# Altium footprint library SWITCH_TACT_PUSHB.PcbLib: 55 footprints (part 1 of 4)
Each footprint in its own frame and in the unit in brackets; x right, y up, seen from the top. Pads: shape width x height; smd on the part's side, far side on the other; paste and mask are expansions set on the pad; w line width, h text height; cw(c..) or ccw(c..) is an arc to the next point about the centre after c.
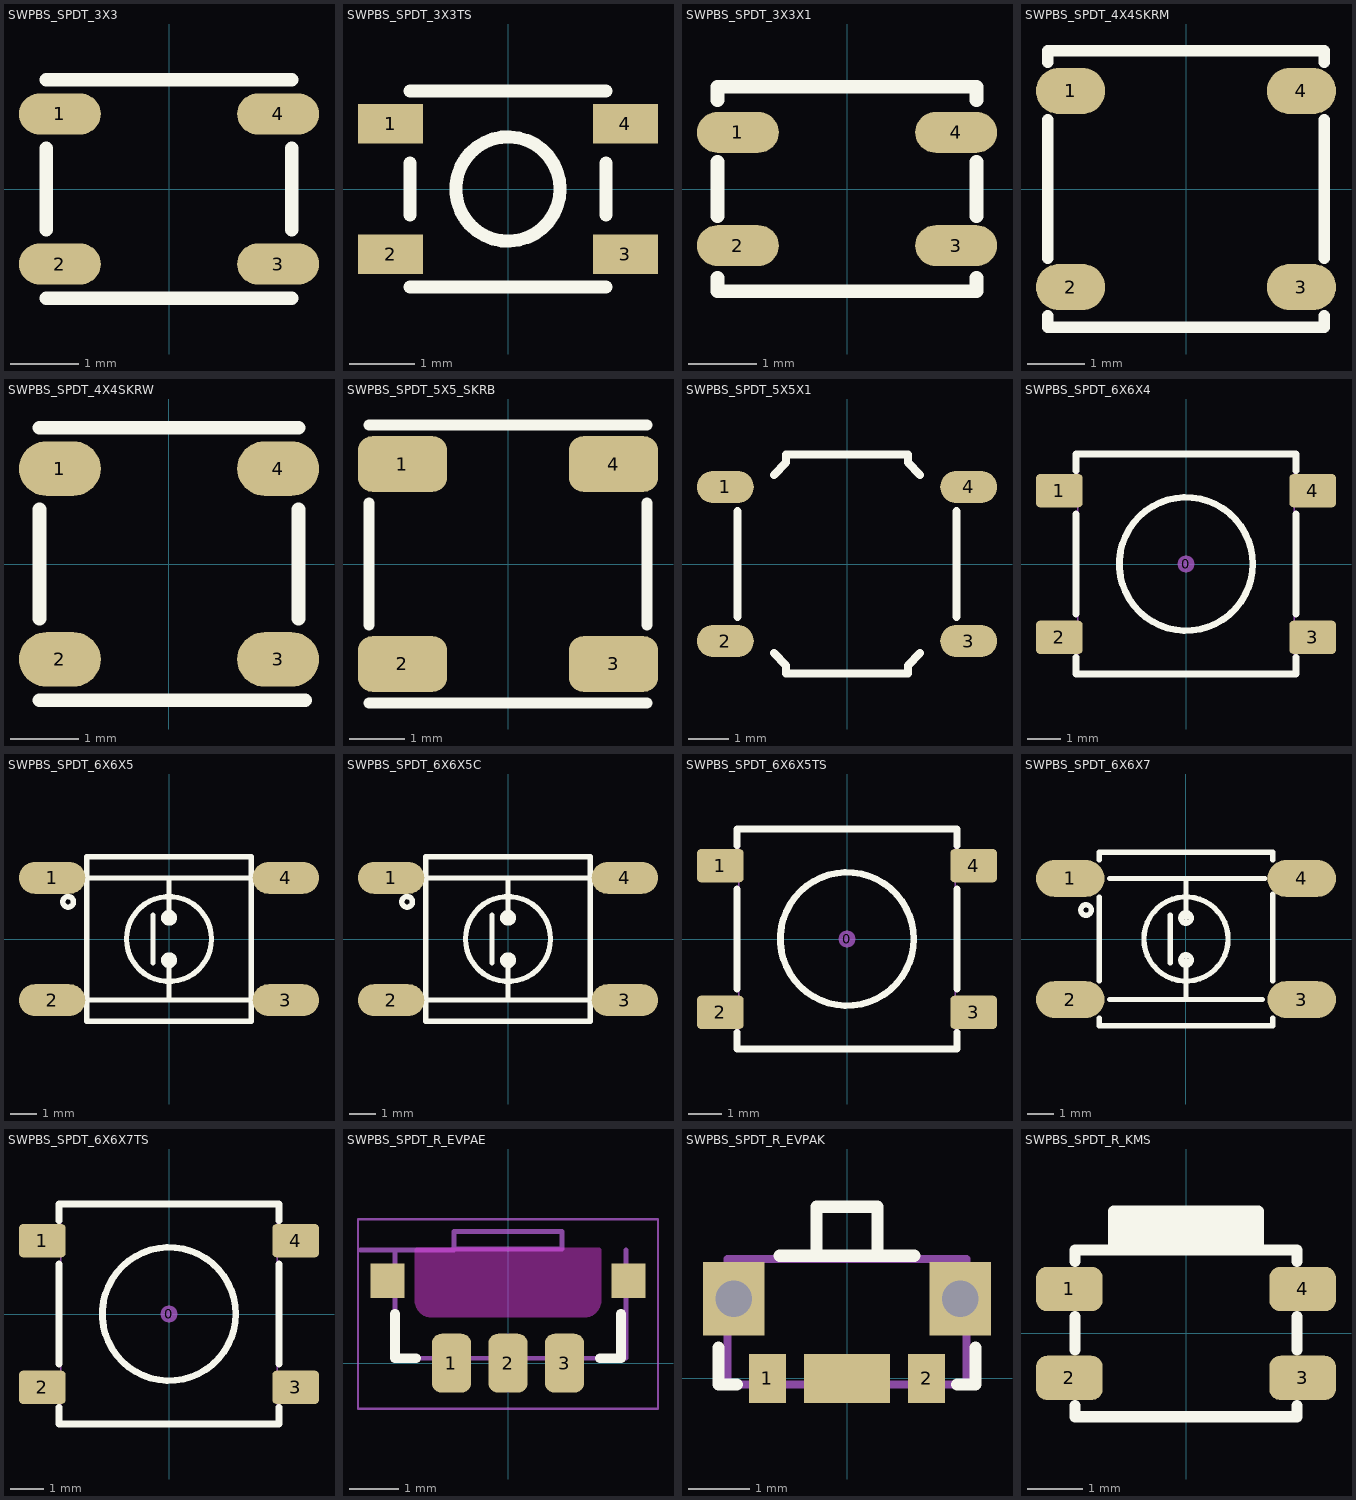
[diagram p0: the footprints below, top view; thin cyan lines are the x and y axes]

## SWPBS_SPDT_3X3 [mm] "SWITCH, PUSHBUTTON, SMD, SPDT, 3.3x2.9 mm, SKSH Series; Height 0.38mm ; 200,000 cycles ; 1.6N Force, SKSHAAE010"
height 0.379
pads (4):
  oval 1.2x0.6 smd mask+0.1: 1(-1.6,1.1) 2(-1.6,-1.1) 3(1.6,-1.1) 4(1.6,1.1)
Top Overlay:
  lines w0.2: -1.8,-1.6 1.8,-1.6 ; -1.8,-0.6 -1.8,0.6 ; -1.8,1.6 1.8,1.6 ; 1.8,-0.6 1.8,0.6
3D body "SKSHAA.STEP": height 0.4, standoff 0.03, extent -1.717,-1.48 1.716,1.48

## SWPBS_SPDT_3X3TS [mm] "SWITCH, PUSHBUTTON, SMD, SPDT, 3.1x3.1x1.5mm, TS-1233"
height 1.5
pads (4):
  rect 1x0.6 smd: 1(-1.8,1) 2(-1.8,-1) 3(1.8,-1) 4(1.8,1)
Top Overlay:
  circle w0.2: c0,0 r0.8
  lines w0.2: -1.5,-1.5 1.5,-1.5 ; -1.5,-0.4 -1.5,0.4 ; -1.5,1.5 1.5,1.5 ; 1.5,-0.4 1.5,0.4
3D body: height 0.15, standoff 0, extent -2,-1.2 -1.5,-0.8
3D body: height 0.15, standoff 0, extent 1.5,-1.2 2,-0.8
3D body: height 0.15, standoff 0, extent 1.5,0.8 2,1.2
3D body: height 0.15, standoff 0, extent -2,0.8 -1.5,1.2
3D body: height 1.5, standoff 1.2, extent -0.9,-0.9 0.9,0.9
3D body: height 0.8, standoff 0, extent -1.5,-1.5 1.5,1.5
3D body: height 1.2, standoff 0.8, extent -1.4,0 0,1.4
3D body: height 1.2, standoff 0.8, extent 0,0 1.4,1.4
3D body: height 1.2, standoff 0.8, extent -1.4,-1.4 0,0
3D body: height 1.2, standoff 0.8, extent 0,-1.4 1.4,0

## SWPBS_SPDT_3X3X1 [mm] "SWITCH, PUSHBUTTON, SMD, SPDT, 3.0x2.7mm, SKSG Series; Height 1.4 mm; 200,000 cycles; 4N force, SKSGAAE010"
height 1.4
pads (4):
  oval 1.2x0.6 smd mask+0.1: 1(-1.6,0.83) 2(-1.6,-0.83) 3(1.6,-0.83) 4(1.6,0.83)
Top Overlay:
  lines w0.2: -1.9,-1.3 -1.9,-1.5 1.9,-1.5 1.9,-1.3 ; -1.9,-0.4 -1.9,0.4 ; -1.9,1.3 -1.9,1.5 1.9,1.5 1.9,1.3 ; 1.9,-0.4 1.9,0.4
3D body "SKSGAA.STEP": height 1.4, standoff 0, extent -1.75,-1.387 1.75,1.387

## SWPBS_SPDT_4X4SKRM [mm] "SWITCH, PUSHBUTTON, SMD, SPDT, SKRM Series ; Height 0.4 mm ; 500,000 cycles ; 1.57N Force, SKRMAAE010"
height 0.4
pads (4):
  oval 1.2x0.8 smd mask+0.1: 1(-2,1.7) 2(-2,-1.7) 3(2,-1.7) 4(2,1.7)
Top Overlay:
  lines w0.2: -2.4,-2.2 -2.4,-2.4 2.4,-2.4 2.4,-2.2 ; -2.4,-1.2 -2.4,1.2 ; -2.4,2.2 -2.4,2.4 2.4,2.4 2.4,2.2 ; 2.4,-1.2 2.4,1.2
3D body "SKRMAA.STEP": height 0.4, standoff 0, extent -2.25,-2.25 2.25,2.25

## SWPBS_SPDT_4X4SKRW [mm] "SWITCH, PUSHBUTTON, SMD, SPDT, SKRW Series ; Height 0.35 mm ; 500,000 cycles ; 1.57N Force, SKRWAEE030"
height 0.35
pads (4):
  oval 1.2x0.8 smd mask+0.1: 1(-1.6,1.4) 2(-1.6,-1.4) 3(1.6,-1.4) 4(1.6,1.4)
Top Overlay:
  lines w0.2: -1.9,-2 2,-2 ; -1.9,-0.8 -1.9,0.8 ; -1.9,2 1.9,2 ; 1.9,-0.8 1.9,0.8
3D body "SKRWAE.STEP": height 0.38, standoff 0.03, extent -1.85,-1.85 1.85,1.85

## SWPBS_SPDT_5X5_SKRB [mm] "SWITCH, PUSHBUTTON, SMD, SPDT, SKRB Series ; Height 0.55 mm ; 2,000,000 cycles ; 1.1N Force, SKRBAGE010"
height 0.55
pads (4):
  rrect50% 1.6x1 smd mask+0.1: 1(-1.9,1.8) 2(-1.9,-1.8) 3(1.9,-1.8) 4(1.9,1.8)
Top Overlay:
  lines w0.2: -2.5,-2.5 2.5,-2.5 ; -2.5,-1.1 -2.5,1.1 ; -2.5,2.5 2.5,2.5 ; 2.5,-1.1 2.5,1.1
3D body "SKRBAG.STEP": height 0.55, standoff 0, extent -2.4,-2.4 2.4,2.4

## SWPBS_SPDT_5X5X1 [mm] "SWITCH, PUSHBUTTON, SMD, SPDT, SKQG Series ; Height 1.5 mm ; 500,000 cycles ; 0.98N Force, SKQGAFE010"
height 1.5
pads (4):
  oval 1.4x0.8 smd mask+0.1: 1(-3,1.9) 2(-3,-1.9) 3(3,-1.9) 4(3,1.9)
Top Overlay:
  lines w0.2: -2.7,-1.3 -2.7,1.3 ; -1.8,-2.2 -1.5,-2.5 -1.5,-2.7 1.5,-2.7 1.5,-2.5 1.8,-2.2 ; -1.8,2.2 -1.5,2.5 -1.5,2.7 1.5,2.7 1.5,2.5 1.8,2.2 ; 2.7,-1.3 2.7,1.3
3D body "SKQGAF.STEP": height 1.53, standoff 0.03, extent -3.2,-2.6 3.2,2.6

## SWPBS_SPDT_6X6X4 [mm] "SWITCH, PUSHBUTTON, SMD, SPDT, 6.5x6.5mm, 4.3mm, TS-1143S"
height 4.3
pads (5):
  round 0.508 on Mech15 mask+0.1: 0(0,0)
  rrect25% 1.4x1 smd mask+0.1: 1(-3.8,2.2) 2(-3.8,-2.2) 3(3.8,-2.2) 4(3.8,2.2)
Top Overlay:
  circle w0.2: c0,0 r2
  lines w0.2: -3.3,-2.8 -3.3,-3.3 3.3,-3.3 3.3,-2.8 ; -3.3,-1.5 -3.3,1.5 ; -3.3,2.8 -3.3,3.3 3.3,3.3 3.3,2.8 ; 3.3,-1.5 3.3,1.5
Mechanical 13:
  lines w0.05: -3.25,-3.25 -3.25,3.25 3.25,3.25 3.25,-3.25 -3.25,-3.25
3D body "TS-1143S-WP.STEP": height 4.3, standoff 0, extent -4,-3.25 4,3.25

## SWPBS_SPDT_6X6X5 [mm] "SWITCH, PUSHBUTTON, SMD, SPDT, 6X6mm 4PIN"
height 5
pads (4):
  oval 2.5x1.2 smd mask+0.1: 1(-4.4,2.3) 2(-4.4,-2.3) 3(4.4,-2.3) 4(4.4,2.3)
Top Overlay:
  circle w0.2: c-3.8,1.4 r0.2
  circle w0.2: c0,0 r1.6
  circle w0.2: c0,0.8 r0.2
  circle w0.2: c0,-0.8 r0.2
  lines w0.2: -3.1,-2.3 3,-2.3 ; -3.1,2.3 3,2.3 ; -0.6,-0.9 -0.6,0.9 ; 0,-2.3 0,-0.8 ; 0,0.8 0,2.3 ; -3.1,-3.1 3.1,-3.1 3.1,3.1 -3.1,3.1 -3.1,-3.1
3D body "cap-6x6-tactile-switch.step": height 12, standoff 2.5, extent -4.725,-4.675 4.675,4.725
3D body "User Library-FSM4JSMATR - TE Connectivity - SPST 6mm Tactile Switch.step": height 5.07, standoff 0.1, extent -5,-3 5,3

## SWPBS_SPDT_6X6X5C [mm] "SWITCH, PUSHBUTTON, SMD, SPDT, WITH CAP"
height 5
pads (4):
  oval 2.5x1.2 smd mask+0.1: 1(-4.4,2.3) 2(-4.4,-2.3) 3(4.4,-2.3) 4(4.4,2.3)
Top Overlay:
  circle w0.2: c0,-0.8 r0.2
  circle w0.2: c0,0.8 r0.2
  circle w0.2: c0,0 r1.6
  circle w0.2: c-3.8,1.4 r0.2
  lines w0.2: -3.1,-2.3 3,-2.3 ; -3.1,2.3 3,2.3 ; -0.6,-0.9 -0.6,0.9 ; 0,-2.3 0,-0.8 ; 0,0.8 0,2.3 ; -3.1,-3.1 -3.1,3.1 3.1,3.1 3.1,-3.1 -3.1,-3.1
3D body "User Library-FSM4JSMATR - TE Connectivity - SPST 6mm Tactile Switch.step": height 5.07, standoff 0.1, extent -5,-3 5,3
3D body "cap-6x6-tactile-switch.step": height 12, standoff 2.5, extent -4.725,-4.675 4.675,4.725

## SWPBS_SPDT_6X6X5TS [mm] "SWITCH, PUSHBUTTON, SMD, SPDT, 6.5x6.5mm, 5.0mm, TS-1150S"
height 5
pads (5):
  round 0.508 on Mech15 mask+0.1: 0(0,0)
  rrect25% 1.4x1 smd mask+0.1: 1(-3.8,2.2) 2(-3.8,-2.2) 3(3.8,-2.2) 4(3.8,2.2)
Top Overlay:
  circle w0.2: c0,0 r2
  lines w0.2: -3.3,-2.8 -3.3,-3.3 3.3,-3.3 3.3,-2.8 ; -3.3,-1.5 -3.3,1.5 ; -3.3,2.8 -3.3,3.3 3.3,3.3 3.3,2.8 ; 3.3,-1.5 3.3,1.5
Mechanical 13:
  lines w0.05: -3.25,-3.25 3.25,-3.25 3.25,3.25 -3.25,3.25 -3.25,-3.25
3D body "TS-1150S-WP.STEP": height 5, standoff 0, extent -4,-3.25 4,3.25

## SWPBS_SPDT_6X6X7 [mm] "SWITCH, PUSHBUTTON, SMD, SPDT, 6.2x6.2x7.3mm, TACTDQ62"
height 7
pads (4):
  oval 2.6x1.4 smd mask+0.1: 1(-4.4,2.3) 2(-4.4,-2.3) 3(4.4,-2.3) 4(4.4,2.3)
Top Overlay:
  circle w0.2: c-3.8,1.1 r0.2
  circle w0.2: c0,0 r1.6
  circle w0.2: c0,0.8 r0.2
  circle w0.2: c0,-0.8 r0.2
  lines w0.2: -3.3,-3 -3.3,-3.3 3.3,-3.3 3.3,-3 ; -3.3,-1.6 -3.3,1.6 ; -3.3,3 -3.3,3.3 3.3,3.3 3.3,3 ; -2.9,-2.3 2.9,-2.3 ; -2.9,2.3 3,2.3 ; -0.6,-0.9 -0.6,0.9 ; 0,-2.3 0,-0.8 ; 0,0.8 0,2.3 ; 3.3,-1.6 3.3,1.7
3D body "User Library-KT11P2SM.STEP": height 5.48, standoff -0.05, extent -5.034,-3.172 5,3.172

## SWPBS_SPDT_6X6X7TS [mm] "SWITCH, PUSHBUTTON, SMD, SPDT, 7.0mm, TS-1170S"
height 7
pads (5):
  round 0.508 on Mech15 mask+0.1: 0(0,0)
  rrect25% 1.4x1 smd mask+0.1: 1(-3.8,2.2) 2(-3.8,-2.2) 3(3.8,-2.2) 4(3.8,2.2)
Top Overlay:
  circle w0.2: c0,0 r2
  lines w0.2: -3.3,-2.8 -3.3,-3.3 3.3,-3.3 3.3,-2.8 ; -3.3,-1.5 -3.3,1.5 ; -3.3,2.8 -3.3,3.3 3.3,3.3 3.3,2.8 ; 3.3,-1.5 3.3,1.5
Mechanical 13:
  lines w0.05: -3.25,-3.25 3.25,-3.25 3.25,3.25 -3.25,3.25 -3.25,-3.25
3D body "TS-1170S-WP.stp": height 7, standoff 0, extent -4,-3.25 4,3.25

## SWPBS_SPDT_R_EVPAE [mm] "SWITCH, PUSHBUTTON, SMD, SPDT, RIGHT or Side"
pads (5):
  rrect50% 0.8x1.2 smd: 1(-1.15,0) 2(0,0) 3(1.15,0)
  rect 0.7x0.7 smd: ""(-2.45,1.675) ""(2.45,1.675)
Top Overlay:
  lines w0.2: -2.3,1.005 -2.3,0.1 -1.87,0.1 ; 1.87,0.1 2.3,0.1 2.3,1.005
Keep-Out Layer:
  board cut-out: -1.55,0.975 -1.61,0.975 -1.72,1.021 -1.804,1.105 -1.85,1.215 -1.85,1.275 -1.85,2.3 1.85,2.3 1.85,1.275 1.85,1.215 1.804,1.105 1.72,1.021 1.61,0.975 1.55,0.975
Keep-Out Layer:
  lines w0.1: -1.85,1.275 ccw(c-1.55,1.275) -1.55,0.975 1.55,0.975 ccw(c1.55,1.275) 1.85,1.275 1.85,2.3 -1.85,2.3 -1.85,1.275
Mechanical 1:
  lines w0.1: -3,2.3 -1.1,2.3
  text "PCB Edge" at -4.2,2.6 h0.4
Mechanical 13:
  lines w0.1: -2.3,2.3 -2.3,0.1 2.4,0.1 2.4,2.3 ; -1.1,2.325 1.1,2.325 1.1,2.675 -1.1,2.675 -1.1,2.325
Mechanical 15:
  lines w0.05: -3.05,-0.925 -3.05,2.925 3.05,2.925 3.05,-0.925 -3.05,-0.925
3D body "EVPAE.step": height 0.9, standoff -2.06, extent -2.4,0.1 2.4,2.7

## SWPBS_SPDT_R_EVPAK [mm] "SWITCH, PUSHBUTTON, SMD, SPDT, RIGHT"
pads (5):
  rect 0.6x0.8 smd: 1(-1.3,0) 2(1.3,0)
  rect 1x1.2 hole 0.6: ""(-1.85,1.3) ""(1.85,1.3)
  rect 1.4x0.8 smd: ""(0,0)
Top Overlay:
  lines w0.2: -2.1,0.5 -2.1,-0.1 -1.8,-0.1 ; -1.1,2 1.1,2 ; -0.5,2 -0.5,2.8 0.5,2.8 0.5,2 ; 1.8,-0.1 2.1,-0.1 2.1,0.5
Mechanical 13:
  lines w0.127: -1.95,-0.1 1.95,-0.1 1.95,1.95 -1.95,1.95 -1.95,-0.1
3D body "EVP-AKB11A.STEP": height 1.62, standoff -0.43, extent -1.95,-0.1 1.95,2.8

## SWPBS_SPDT_R_KMS [mm] "SWITCH, PUSHBUTTON, SMD, SPDT, RIGHT"
pads (4):
  rrect50% 1.2x0.8 smd mask+0.1: 1(-2.1,0.8) 2(-2.1,-0.8) 3(2.1,-0.8) 4(2.1,0.8)
Top Overlay:
  rectangle: -1.3,1.5 1.3,2.2
  lines w0.2: -2,-1.3 -2,-1.5 2,-1.5 2,-1.3 ; -2,-0.3 -2,0.3 ; -2,1.3 -2,1.5 2,1.5 2,1.3 ; -1.3,1.5 -1.3,2.2 1.3,2.2 1.3,1.5 ; 2,-0.3 2,0.3
3D body "KMS221GLFS.stp": height 1.42, standoff -0.02, extent -2.3,-1.4 2.3,2.15